# Altium footprint library Footprint.PcbLib: 97 footprints (part 3 of 7)
Each footprint in its own frame and in the unit in brackets; x right, y up, seen from the top. Pads: shape width x height; smd on the part's side, far side on the other; paste and mask are expansions set on the pad; w line width, h text height; cw(c..) or ccw(c..) is an arc to the next point about the centre after c.
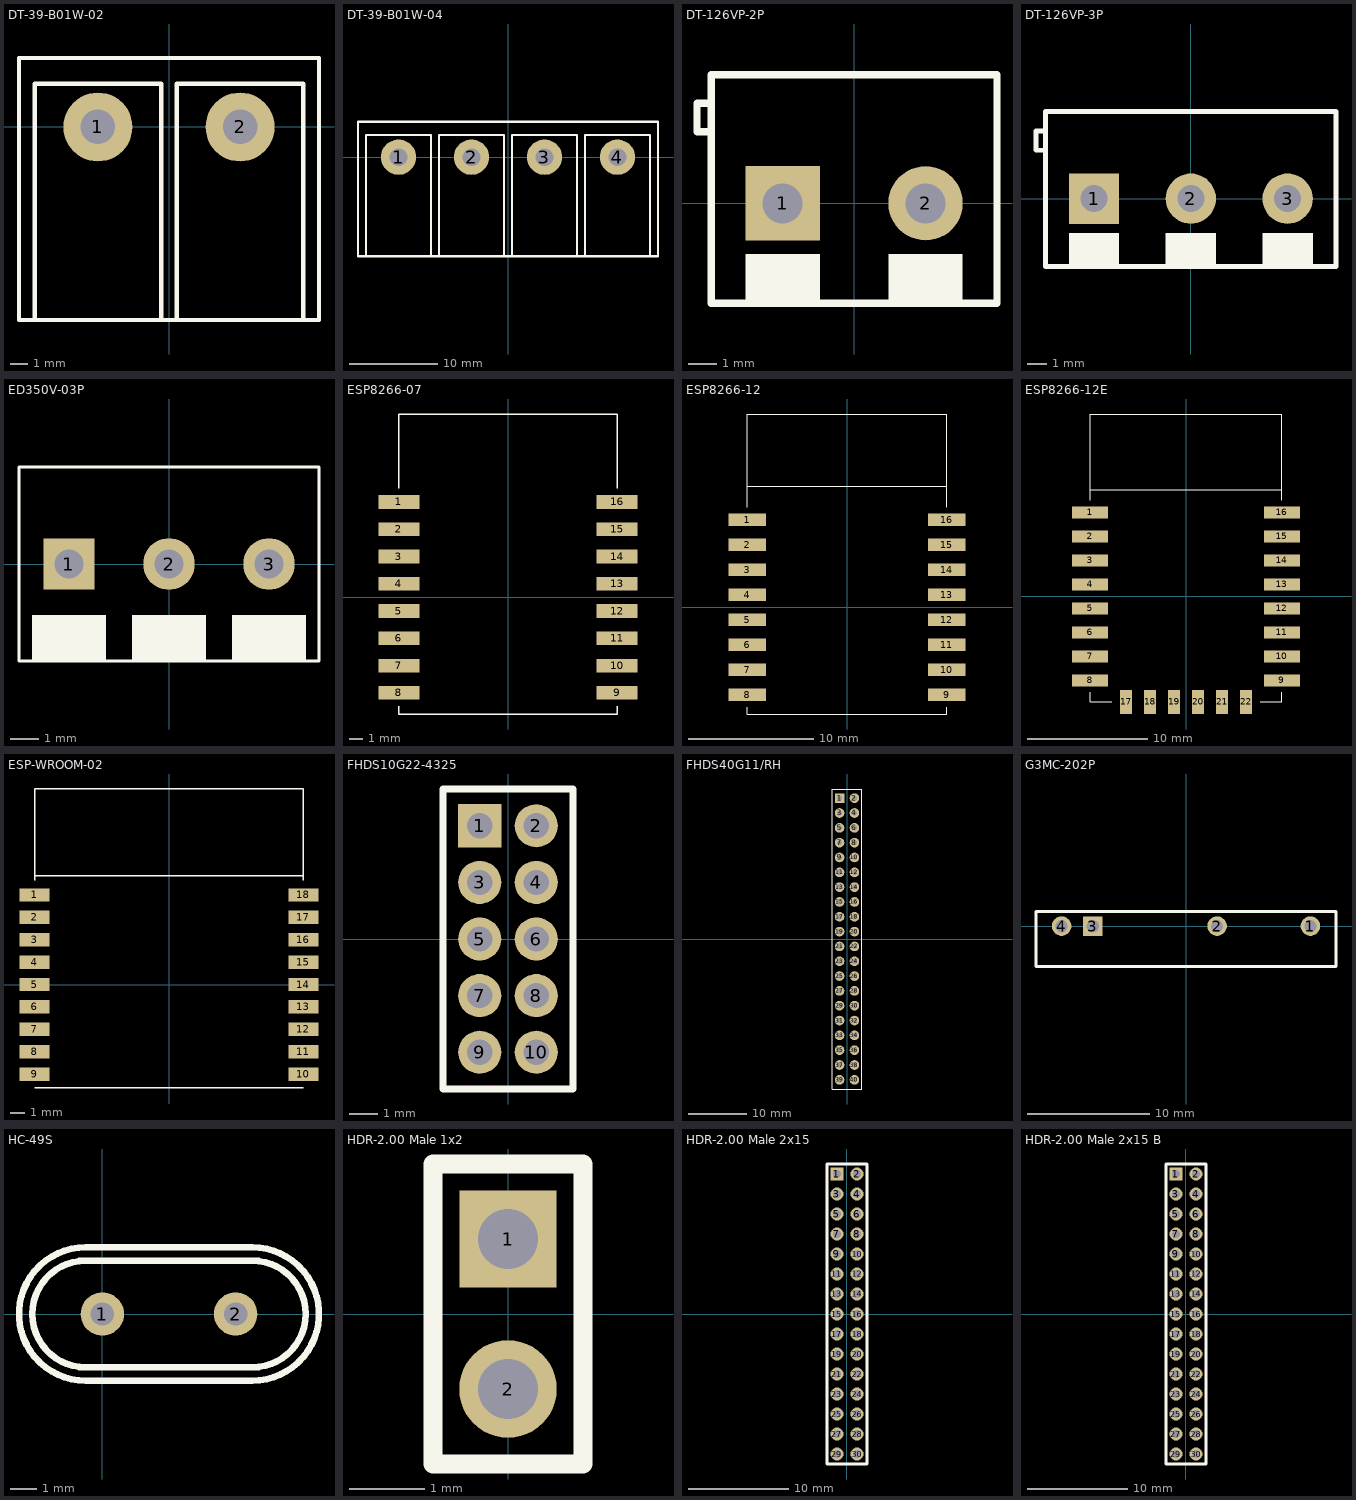
[diagram p2: the footprints below, top view; thin cyan lines are the x and y axes]

## DT-39-B01W-02 [mm]
pads (2):
  round 4 hole 2: 1(-4.125,0) 2(4.125,0)
Top Overlay:
  lines w0.254: -7.8,-11.1 -7.8,2.5 -0.45,2.5 -0.45,-11.15 ; 0.45,-11.15 0.45,2.5 7.8,2.5 7.8,-11.2 ; -8.705,-11.2 -8.705,4 8.705,4 8.705,-11.2 -8.705,-11.2

## DT-39-B01W-04 [mm]
pads (4):
  round 4 hole 2: 1(-12.375,0) 2(-4.125,0) 3(4.125,0) 4(12.375,0)
Top Overlay:
  lines w0.254: -16.05,-11.15 -16.05,2.5 -8.7,2.5 -8.7,-11.2 ; -7.8,-11.1 -7.8,2.5 -0.45,2.5 -0.45,-11.15 ; 0.45,-11.15 0.45,2.5 7.8,2.5 7.8,-11.2 ; 8.7,-11.2 8.7,2.5 16.05,2.5 16.05,-11.15 ; -16.955,-11.2 16.955,-11.2 16.955,4 -16.955,4 -16.955,-11.2

## DT-126VP-2P [mm]
pads (2):
  rect 2.6x2.6 hole 1.4: 1(-2.5,0)
  round 2.6 hole 1.4: 2(2.5,0)
Top Overlay:
  rectangle: -3.8,-3.5 -1.2,-1.778
  rectangle: 1.2,-3.5 3.8,-1.778
  lines w0.254: -5,2.5 -5.5,2.5 -5.5,3.5 -5,3.5 ; -5,-3.5 -5,4.5 5,4.5 5,-3.5 -5,-3.5

## DT-126VP-3P [mm]
pads (3):
  rect 2.6x2.6 hole 1.4: 1(-5,0)
  round 2.6 hole 1.4: 2(0,0) 3(5,0)
Top Overlay:
  rectangle: 3.7,-3.5 6.3,-1.778
  rectangle: -1.3,-3.5 1.3,-1.778
  rectangle: -6.3,-3.5 -3.7,-1.778
  lines w0.254: -7.5,2.5 -8,2.5 -8,3.5 -7.5,3.5 ; -7.5,-3.5 -7.5,4.5 7.5,4.5 7.5,-3.5 -7.5,-3.5

## ED350V-03P [mm] "Terminal Block 3 Pins Mini PCB 300V/10A Wire protector"
pads (3):
  rect 1.8x1.8 hole 1: 1(-3.5,0)
  round 1.8 hole 1: 2(0,0) 3(3.5,0)
Top Overlay:
  rectangle: -4.8,-3.4 -2.2,-1.778
  rectangle: 2.2,-3.4 4.8,-1.778
  rectangle: -1.3,-3.4 1.3,-1.778
  lines w0.1: -5.25,-3.4 5.25,-3.4 5.25,3.4 -5.25,3.4 -5.25,-3.4

## ESP8266-07 [mm]
pads (16):
  rect 3x1 smd: 1(-8,7) 2(-8,5) 3(-8,3) 4(-8,1) 5(-8,-1) 6(-8,-3) 7(-8,-5) 8(-8,-7) 9(8,-7) 10(8,-5) 11(8,-3) 12(8,-1) 13(8,1) 14(8,3) 15(8,5) 16(8,7)
Top Overlay:
  lines w0.1: -8,-8 -8,-8.55 8,-8.55 8,-8 ; -8,8 -8,13.45 8,13.45 8,8

## ESP8266-12 [mm]
pads (16):
  rect 3x1 smd: 1(-8,7) 2(-8,5) 3(-8,3) 4(-8,1) 5(-8,-1) 6(-8,-3) 7(-8,-5) 8(-8,-7) 9(8,-7) 10(8,-5) 11(8,-3) 12(8,-1) 13(8,1) 14(8,3) 15(8,5) 16(8,7)
Top Overlay:
  lines w0.1: -8,-8 -8,-8.55 8,-8.55 8,-8 ; -8,8 -8,15.45 8,15.45 8,8 ; -8,9.65 8,9.65

## ESP8266-12E [mm]
pads (22):
  rect 3x1 smd: 1(-8,7) 2(-8,5) 3(-8,3) 4(-8,1) 5(-8,-1) 6(-8,-3) 7(-8,-5) 8(-8,-7) 9(8,-7) 10(8,-5) 11(8,-3) 12(8,-1) 13(8,1) 14(8,3) 15(8,5) 16(8,7)
  rect 1x2 smd: 17(-5,-8.8) 18(-3,-8.8) 19(-1,-8.8) 20(1,-8.8) 21(3,-8.8) 22(5,-8.8)
Top Overlay:
  lines w0.1: -8,-8 -8,-8.8 -6.186,-8.8 ; -8,8 -8,15.2 8,15.2 8,8 ; -8,8.888 8,8.888 ; 6.186,-8.8 8,-8.8 8,-8
3D body: height 1.01, standoff 1, extent -7.31,10 7.6,14.57
3D body: height 1.2, standoff 1, extent 5.5,8.4 6.5,9.2
3D body: height 1.2, standoff 1, extent 6.5,8.4 6.8,9.2
3D body: height 1.4, standoff 1.2, extent 5.5,8.4 6.5,9.2
3D body: height 1.2, standoff 1, extent 5.2,8.4 5.5,9.2
3D body: height 1, standoff 0, extent -8,-8.8 8,15.2
3D body: height 1, standoff 0, extent -7.3,-7.5 -6.9,-6.5
3D body: height 1, standoff 0, extent -6.9,-7.5 -6.5,-6.5
3D body: height 1, standoff 0, extent -8,-7.5 -7.3,-6.5
3D body: height 1, standoff 0, extent -5.5,-8.8 -4.5,-7.8
3D body: height 1, standoff 0, extent -3.5,-8.8 -2.5,-7.8
3D body: height 1, standoff 0, extent -1.5,-8.8 -0.5,-7.8
3D body: height 1, standoff 0, extent 0.5,-8.8 1.5,-7.8
3D body: height 1, standoff 0, extent 2.5,-8.8 3.5,-7.8
3D body: height 1, standoff 0, extent 4.5,-8.8 5.5,-7.8
3D body: height 2.5, standoff 1, extent -6,-7.3 6,7.7
3D body: height 1, standoff 0, extent -8,-5.5 -7.3,-4.5
3D body: height 1, standoff 0, extent -6.9,-5.5 -6.5,-4.5
3D body: height 1, standoff 0, extent -7.3,-5.5 -6.9,-4.5
3D body: height 1, standoff 0, extent -8,-3.5 -7.3,-2.5
3D body: height 1, standoff 0, extent -6.9,-3.5 -6.5,-2.5
3D body: height 1, standoff 0, extent -7.3,-3.5 -6.9,-2.5
3D body: height 1, standoff 0, extent -8,-1.5 -7.3,-0.5
3D body: height 1, standoff 0, extent -6.9,-1.5 -6.5,-0.5
3D body: height 1, standoff 0, extent -7.3,-1.5 -6.9,-0.5
3D body: height 1, standoff 0, extent -8,0.5 -7.3,1.5
3D body: height 1, standoff 0, extent -6.9,0.5 -6.5,1.5
3D body: height 1, standoff 0, extent -7.3,0.5 -6.9,1.5
3D body: height 1, standoff 0, extent -8,2.5 -7.3,3.5
3D body: height 1, standoff 0, extent -6.9,2.5 -6.5,3.5
3D body: height 1, standoff 0, extent -7.3,2.5 -6.9,3.5
3D body: height 1, standoff 0, extent -8,4.5 -7.3,5.5
3D body: height 1, standoff 0, extent -6.9,4.5 -6.5,5.5
3D body: height 1, standoff 0, extent -7.3,4.5 -6.9,5.5
3D body: height 1, standoff 0, extent -8,6.5 -7.3,7.5
3D body: height 1, standoff 0, extent -6.9,6.5 -6.5,7.5
3D body: height 1, standoff 0, extent -7.3,6.5 -6.9,7.5
3D body: height 1, standoff 0, extent 6.9,-7.5 7.3,-6.5
3D body: height 1, standoff 0, extent 6.5,-7.5 6.9,-6.5
3D body: height 1, standoff 0, extent 7.3,-7.5 8,-6.5
3D body: height 1, standoff 0, extent 6.9,-5.5 7.3,-4.5
3D body: height 1, standoff 0, extent 6.5,-5.5 6.9,-4.5
3D body: height 1, standoff 0, extent 7.3,-5.5 8,-4.5
3D body: height 1, standoff 0, extent 6.9,-3.5 7.3,-2.5
3D body: height 1, standoff 0, extent 6.5,-3.5 6.9,-2.5
3D body: height 1, standoff 0, extent 7.3,-3.5 8,-2.5
3D body: height 1, standoff 0, extent 6.9,-1.5 7.3,-0.5
3D body: height 1, standoff 0, extent 6.5,-1.5 6.9,-0.5
3D body: height 1, standoff 0, extent 7.3,-1.5 8,-0.5
3D body: height 1, standoff 0, extent 6.9,0.5 7.3,1.5
3D body: height 1, standoff 0, extent 6.5,0.5 6.9,1.5
3D body: height 1, standoff 0, extent 7.3,0.5 8,1.5
3D body: height 1, standoff 0, extent 6.9,2.5 7.3,3.5
3D body: height 1, standoff 0, extent 6.5,2.5 6.9,3.5
3D body: height 1, standoff 0, extent 7.3,2.5 8,3.5
3D body: height 1, standoff 0, extent 6.9,4.5 7.3,5.5
3D body: height 1, standoff 0, extent 6.5,4.5 6.9,5.5
3D body: height 1, standoff 0, extent 7.3,4.5 8,5.5
3D body: height 1, standoff 0, extent 7.3,6.5 8,7.5
3D body: height 1, standoff 0, extent 6.5,6.5 6.9,7.5
3D body: height 1, standoff 0, extent 6.9,6.5 7.3,7.5

## ESP-WROOM-02 [mm]
pads (18):
  rect 2x0.9 smd: 1(-9,6) 2(-9,4.5) 3(-9,3) 4(-9,1.5) 5(-9,0) 6(-9,-1.5) 7(-9,-3) 8(-9,-4.5) 9(-9,-6) 10(9,-6) 11(9,-4.5) 12(9,-3) 13(9,-1.5) 14(9,0) 15(9,1.5) 16(9,3) 17(9,4.5) 18(9,6)
Top Overlay:
  lines w0.1: -9,-6.9 9,-6.9 ; -9,7 -9,13.1 9,13.1 9,7 ; -9,7.3 9,7.3

## FHDS10G22-4325 [mil] "2.00mm 2x5 PINS, FEMALE"
pads (10):
  rect 60x60 hole 35: 1(-39.37,157.48)
  round 60 hole 35: 2(39.37,157.48) 3(-39.37,78.74) 4(39.37,78.74) 5(-39.37,0) 6(39.37,0) 7(-39.37,-78.74) 8(39.37,-78.74) 9(-39.37,-157.48) 10(39.37,-157.48)
Top Overlay:
  lines w10: -90.55,-208.66 90.55,-208.66 90.55,208.66 -90.55,208.66 -90.55,-208.66

## FHDS40G11/RH [mil]
pads (40):
  rect 65x65 hole 35: 1(-50,950)
  round 65 hole 35: 2(50,950) 3(-50,850) 4(50,850) 5(-50,750) 6(50,750) 7(-50,650) 8(50,650) 9(-50,550) 10(50,550) 11(-50,450) 12(50,450) 13(-50,350) 14(50,350) 15(-50,250) 16(50,250) 17(-50,150) 18(50,150) 19(-50,50) 20(50,50) 21(-50,-50) 22(50,-50) 23(-50,-150) 24(50,-150) 25(-50,-250) 26(50,-250) 27(-50,-350) 28(50,-350) 29(-50,-450) 30(50,-450) 31(-50,-550) 32(50,-550) 33(-50,-650) 34(50,-650) 35(-50,-750) 36(50,-750) 37(-50,-850) 38(50,-850) 39(-50,-950) 40(50,-950)
Top Overlay:
  lines w5: -98.43,-1011.81 -98.43,1011.81 98.43,1011.81 98.43,-1011.81 -98.43,-1011.81
3D body: height 19.68, standoff 0, extent -98.43,-1011.81 -78.74,1011.81
3D body: height 19.68, standoff 0, extent 78.74,-1011.81 98.43,1011.81
3D body: height 314.96, standoff 19.68, extent -98.43,-1011.81 -69.69,1011.81
3D body: height 314.96, standoff 19.68, extent 69.69,-1011.81 98.43,1011.81
3D body: height 314.96, standoff 19.68, extent -69.69,969.68 69.69,1011.81
3D body: height 314.96, standoff 19.68, extent -69.69,-1011.81 69.69,-969.68
3D body: height 314.96, standoff 19.68, extent -30.32,-969.68 30.32,969.68
3D body: height 314.96, standoff 19.68, extent -69.69,900 69.69,930.32
3D body: height 314.96, standoff 19.68, extent -69.69,869.68 69.69,900
3D body: height 314.96, standoff 19.68, extent -69.69,769.68 69.69,800
3D body: height 314.96, standoff 19.68, extent -69.69,800 69.69,830.32
3D body: height 314.96, standoff 19.68, extent -69.69,669.68 69.69,700
3D body: height 314.96, standoff 19.68, extent -69.69,700 69.69,730.32
3D body: height 314.96, standoff 19.68, extent -69.69,569.68 69.69,600
3D body: height 314.96, standoff 19.68, extent -69.69,600 69.69,630.32
3D body: height 314.96, standoff 19.68, extent -69.69,469.69 69.69,500
3D body: height 314.96, standoff 19.68, extent -69.69,500 69.69,530.32
3D body: height 314.96, standoff 19.68, extent -69.69,369.69 69.69,400
3D body: height 314.96, standoff 19.68, extent -69.69,400 69.69,430.31
3D body: height 314.96, standoff 19.68, extent -69.69,269.69 69.69,300
3D body: height 314.96, standoff 19.68, extent -69.69,300 69.69,330.31
3D body: height 314.96, standoff 19.68, extent -69.69,169.69 69.69,200
3D body: height 314.96, standoff 19.68, extent -69.69,200 69.69,230.31
3D body: height 314.96, standoff 19.68, extent -69.69,69.69 69.69,100
3D body: height 314.96, standoff 19.68, extent -69.69,100 69.69,130.31
3D body: height 314.96, standoff 19.68, extent -69.69,-30.32 69.69,0
3D body: height 314.96, standoff 19.68, extent -69.69,0 69.69,30.32
3D body: height 314.96, standoff 19.68, extent -69.69,-130.31 69.69,-100
3D body: height 314.96, standoff 19.68, extent -69.69,-100 69.69,-69.69
3D body: height 314.96, standoff 19.68, extent -69.69,-230.31 69.69,-200
3D body: height 314.96, standoff 19.68, extent -69.69,-200 69.69,-169.69
3D body: height 314.96, standoff 19.68, extent -69.69,-330.31 69.69,-300
3D body: height 314.96, standoff 19.68, extent -69.69,-300 69.69,-269.69
3D body: height 314.96, standoff 19.68, extent -69.69,-430.31 69.69,-400
3D body: height 314.96, standoff 19.68, extent -69.69,-400 69.69,-369.69
3D body: height 314.96, standoff 19.68, extent -69.69,-530.32 69.69,-500
3D body: height 314.96, standoff 19.68, extent -69.69,-500 69.69,-469.69
3D body: height 314.96, standoff 19.68, extent -69.69,-630.32 69.69,-600
3D body: height 314.96, standoff 19.68, extent -69.69,-600 69.69,-569.68
3D body: height 314.96, standoff 19.68, extent -69.69,-730.32 69.69,-700
3D body: height 314.96, standoff 19.68, extent -69.69,-700 69.69,-669.68
3D body: height 314.96, standoff 19.68, extent -69.69,-830.32 69.69,-800
3D body: height 314.96, standoff 19.68, extent -69.69,-800 69.69,-769.68
3D body: height 314.96, standoff 19.68, extent -69.69,-930.32 69.69,-900
3D body: height 314.96, standoff 19.68, extent -69.69,-900 69.69,-869.68
3D body: height 19.68, standoff -129.92, extent -57.87,938.19 -42.13,961.81
3D body: height 19.68, standoff -129.92, extent 42.13,938.19 57.87,961.81
3D body: height 19.68, standoff -129.92, extent 42.13,838.19 57.87,861.81
3D body: height 19.68, standoff -129.92, extent -57.87,838.19 -42.13,861.81
3D body: height 19.68, standoff -129.92, extent -57.87,738.19 -42.13,761.81
3D body: height 19.68, standoff -129.92, extent 42.13,738.19 57.87,761.81
3D body: height 19.68, standoff -129.92, extent 42.13,638.19 57.87,661.81
3D body: height 19.68, standoff -129.92, extent -57.87,638.19 -42.13,661.81
3D body: height 19.68, standoff -129.92, extent -57.87,538.19 -42.13,561.81
3D body: height 19.68, standoff -129.92, extent 42.13,538.19 57.87,561.81
3D body: height 19.68, standoff -129.92, extent -57.87,438.19 -42.13,461.81
3D body: height 19.68, standoff -129.92, extent 42.13,438.19 57.87,461.81
3D body: height 19.68, standoff -129.92, extent -57.87,338.19 -42.13,361.81
3D body: height 19.68, standoff -129.92, extent 42.13,338.19 57.87,361.81
3D body: height 19.68, standoff -129.92, extent -57.87,238.19 -42.13,261.81
3D body: height 19.68, standoff -129.92, extent 42.13,238.19 57.87,261.81
3D body: height 19.68, standoff -129.92, extent -57.87,138.19 -42.13,161.81
3D body: height 19.68, standoff -129.92, extent 42.13,138.19 57.87,161.81
3D body: height 19.68, standoff -129.92, extent -57.87,38.19 -42.13,61.81
3D body: height 19.68, standoff -129.92, extent 42.13,38.19 57.87,61.81
3D body: height 19.68, standoff -129.92, extent -57.87,-61.81 -42.13,-38.19
3D body: height 19.68, standoff -129.92, extent 42.13,-61.81 57.87,-38.19
3D body: height 19.68, standoff -129.92, extent -57.87,-161.81 -42.13,-138.19
3D body: height 19.68, standoff -129.92, extent 42.13,-161.81 57.87,-138.19
3D body: height 19.68, standoff -129.92, extent -57.87,-261.81 -42.13,-238.19
3D body: height 19.68, standoff -129.92, extent 42.13,-261.81 57.87,-238.19
3D body: height 19.68, standoff -129.92, extent -57.87,-361.81 -42.13,-338.19
3D body: height 19.68, standoff -129.92, extent 42.13,-361.81 57.87,-338.19
3D body: height 19.68, standoff -129.92, extent -57.87,-461.81 -42.13,-438.19
3D body: height 19.68, standoff -129.92, extent 42.13,-461.81 57.87,-438.19
3D body: height 19.68, standoff -129.92, extent -57.87,-561.81 -42.13,-538.19
3D body: height 19.68, standoff -129.92, extent 42.13,-561.81 57.87,-538.19
3D body: height 19.68, standoff -129.92, extent -57.87,-661.81 -42.13,-638.19
3D body: height 19.68, standoff -129.92, extent 42.13,-661.81 57.87,-638.19
3D body: height 19.68, standoff -129.92, extent -57.87,-761.81 -42.13,-738.19
3D body: height 19.68, standoff -129.92, extent 42.13,-761.81 57.87,-738.19
3D body: height 19.68, standoff -129.92, extent -57.87,-861.81 -42.13,-838.19
3D body: height 19.68, standoff -129.92, extent 42.13,-861.81 57.87,-838.19
3D body: height 19.68, standoff -129.92, extent -57.87,-961.81 -42.13,-938.19
3D body: height 19.68, standoff -129.92, extent 42.13,-961.81 57.87,-938.19

## G3MC-202P [mm]
pads (4):
  round 1.6 hole 1: 1(10.16,0) 2(2.54,0) 4(-10.16,0)
  rect 1.6x1.6 hole 1: 3(-7.62,0)
Top Overlay:
  lines w0.254: -12.25,-3.3 -12.25,1.2 12.25,1.2 12.25,-3.3 -12.25,-3.3
3D body: height 0.8, standoff 0, extent -5.08,-3.3 -3.175,1.2
3D body: height 0.8, standoff 0, extent 6.35,-3.3 8.255,1.2
3D body: height 0.8, standoff 0, extent -8.42,-0.125 -6.82,0.125
3D body: height -2.8, standoff -3.5, extent -7.97,-0.125 -7.271,0.125
3D body: height 0, standoff -3.15, extent -7.97,-0.125 -7.27,0.125
3D body: height 0.8, standoff 0, extent -10.96,-0.125 -9.36,0.125
3D body: height -2.8, standoff -3.5, extent -10.51,-0.125 -9.811,0.125
3D body: height 0, standoff -3.15, extent -10.51,-0.125 -9.81,0.125
3D body: height 0.8, standoff 0, extent 1.74,-0.125 3.34,0.125
3D body: height -2.8, standoff -3.5, extent 2.19,-0.125 2.889,0.125
3D body: height 0, standoff -3.15, extent 2.19,-0.125 2.89,0.125
3D body: height 0.8, standoff 0, extent 9.36,-0.125 10.96,0.125
3D body: height -2.8, standoff -3.5, extent 9.81,-0.125 10.509,0.125
3D body: height 0, standoff -3.15, extent 9.81,-0.125 10.51,0.125
3D body: height 20.5, standoff 0.8, extent -12.25,-3.3 12.25,1.2

## HC-49S [mil]
pads (2):
  round 65 hole 35: 1(0,0) 2(200,0)
Top Overlay:
  lines w10: -25,-100 cw(c-25,0) -25,100 225,100 cw(c225,0) 225,-100 -25,-100 ; -25,-80 cw(c-25,0) -25,80 225,80 cw(c225,0) 225,-80 -25,-80

## HDR-2.00 Male 1x2 [mm]
pads (2):
  rect 1.3x1.3 hole 0.8: 1(0,1)
  round 1.3 hole 0.8: 2(0,-1)
Top Overlay:
  lines w0.254: -1,-2 1,-2 1,2 -1,2 -1,-2
3D body: height 0.25, standoff 0, extent 0.5,0 1,2
3D body: height 0.25, standoff 0, extent -1,0 -0.5,2
3D body: height 2, standoff 0.25, extent -1,0 1,2
3D body: height 2, standoff 0.25, extent -1,-2 1,0
3D body: height 6, standoff -2.8, extent -0.25,-1.24 0.25,-0.74
3D body: height 0.25, standoff 0, extent -1,-2 -0.5,0
3D body: height 0.25, standoff 0, extent 0.5,-2 1,0
3D body: height 6, standoff -2.8, extent -0.25,0.76 0.25,1.26

## HDR-2.00 Male 2x15 [mm]
pads (30):
  rect 1.3x1.3 hole 0.8: 1(-1,14)
  round 1.3 hole 0.8: 2(1,14) 3(-1,12) 4(1,12) 5(-1,10) 6(1,10) 7(-1,8) 8(1,8) 9(-1,6) 10(1,6) 11(-1,4) 12(1,4) 13(-1,2) 14(1,2) 15(-1,0) 16(1,0) 17(-1,-2) 18(1,-2) 19(-1,-4) 20(1,-4) 21(-1,-6) 22(1,-6) 23(-1,-8) 24(1,-8) 25(-1,-10) 26(1,-10) 27(-1,-12) 28(1,-12) 29(-1,-14) 30(1,-14)
Top Overlay:
  lines w0.254: -2,-15 2,-15 2,-5 2,5 2,15 -2,15 -2,5 -2,-5 -2,-15
3D body: height 2, standoff 0.25, extent -2,-15 2,-13
3D body: height 2, standoff 0.25, extent -2,-13 2,-11
3D body: height 2, standoff 0.25, extent -2,-11 2,-9
3D body: height 2, standoff 0.25, extent -2,-9 2,-7
3D body: height 2, standoff 0.25, extent -2,-7 2,-5
3D body: height 0.25, standoff 0, extent 1.5,-7 2,-5
3D body: height 0.25, standoff 0, extent 1.5,-9 2,-7
3D body: height 0.25, standoff 0, extent 1.5,-11 2,-9
3D body: height 0.25, standoff 0, extent 1.5,-13 2,-11
3D body: height 0.25, standoff 0, extent 1.5,-15 2,-13
3D body: height 0.25, standoff 0, extent -2,-15 -1.5,-13
3D body: height 0.25, standoff 0, extent -2,-13 -1.5,-11
3D body: height 0.25, standoff 0, extent -2,-11 -1.5,-9
3D body: height 0.25, standoff 0, extent -2,-9 -1.5,-7
3D body: height 0.25, standoff 0, extent -2,-7 -1.5,-5
3D body: height 0.25, standoff 0, extent 0,-15 0.5,-5
3D body: height 6, standoff -2.8, extent 0.75,-14.24 1.25,-13.74
3D body: height 6, standoff -2.8, extent -1.25,-14.24 -0.75,-13.74
3D body: height 6, standoff -2.8, extent 0.75,-12.24 1.25,-11.74
3D body: height 6, standoff -2.8, extent -1.25,-12.24 -0.75,-11.74
3D body: height 6, standoff -2.8, extent 0.75,-10.24 1.25,-9.74
3D body: height 6, standoff -2.8, extent -1.25,-10.24 -0.75,-9.74
3D body: height 6, standoff -2.8, extent -1.25,-6.24 -0.75,-5.74
3D body: height 6, standoff -2.8, extent -1.25,-8.24 -0.75,-7.74
3D body: height 0.25, standoff 0, extent -0.5,-15 0,-5
3D body: height 6, standoff -2.8, extent 0.75,-8.24 1.25,-7.74
3D body: height 6, standoff -2.8, extent 0.75,-6.24 1.25,-5.74
3D body: height 6, standoff -2.8, extent 0.75,13.76 1.25,14.26
3D body: height 6, standoff -2.8, extent 0.75,11.76 1.25,12.26
3D body: height 0.25, standoff 0, extent -0.5,5 0,15
3D body: height 6, standoff -2.8, extent -1.25,11.76 -0.75,12.26
3D body: height 6, standoff -2.8, extent -1.25,13.76 -0.75,14.26
3D body: height 6, standoff -2.8, extent -1.25,9.76 -0.75,10.26
3D body: height 6, standoff -2.8, extent 0.75,9.76 1.25,10.26
3D body: height 6, standoff -2.8, extent -1.25,7.76 -0.75,8.26
3D body: height 6, standoff -2.8, extent 0.75,7.76 1.25,8.26
3D body: height 6, standoff -2.8, extent -1.25,5.76 -0.75,6.26
3D body: height 6, standoff -2.8, extent 0.75,5.76 1.25,6.26
3D body: height 0.25, standoff 0, extent 0,5 0.5,15
3D body: height 0.25, standoff 0, extent -2,13 -1.5,15
3D body: height 0.25, standoff 0, extent -2,11 -1.5,13
3D body: height 0.25, standoff 0, extent -2,9 -1.5,11
3D body: height 0.25, standoff 0, extent -2,7 -1.5,9
3D body: height 0.25, standoff 0, extent -2,5 -1.5,7
3D body: height 0.25, standoff 0, extent 1.5,5 2,7
3D body: height 0.25, standoff 0, extent 1.5,7 2,9
3D body: height 0.25, standoff 0, extent 1.5,9 2,11
3D body: height 0.25, standoff 0, extent 1.5,11 2,13
3D body: height 0.25, standoff 0, extent 1.5,13 2,15
3D body: height 2, standoff 0.25, extent -2,13 2,15
3D body: height 2, standoff 0.25, extent -2,11 2,13
3D body: height 2, standoff 0.25, extent -2,9 2,11
3D body: height 2, standoff 0.25, extent -2,7 2,9
3D body: height 2, standoff 0.25, extent -2,5 2,7
3D body: height 6, standoff -2.8, extent 0.75,3.76 1.25,4.26
3D body: height 6, standoff -2.8, extent 0.75,1.76 1.25,2.26
3D body: height 0.25, standoff 0, extent -0.5,-5 0,5
3D body: height 6, standoff -2.8, extent -1.25,1.76 -0.75,2.26
3D body: height 6, standoff -2.8, extent -1.25,3.76 -0.75,4.26
3D body: height 6, standoff -2.8, extent -1.25,-0.24 -0.75,0.26
3D body: height 6, standoff -2.8, extent 0.75,-0.24 1.25,0.26
3D body: height 6, standoff -2.8, extent -1.25,-2.24 -0.75,-1.74
3D body: height 6, standoff -2.8, extent 0.75,-2.24 1.25,-1.74
3D body: height 6, standoff -2.8, extent -1.25,-4.24 -0.75,-3.74
3D body: height 6, standoff -2.8, extent 0.75,-4.24 1.25,-3.74
3D body: height 0.25, standoff 0, extent 0,-5 0.5,5
3D body: height 0.25, standoff 0, extent -2,3 -1.5,5
3D body: height 0.25, standoff 0, extent -2,1 -1.5,3
3D body: height 0.25, standoff 0, extent -2,-1 -1.5,1
3D body: height 0.25, standoff 0, extent -2,-3 -1.5,-1
3D body: height 0.25, standoff 0, extent -2,-5 -1.5,-3
3D body: height 0.25, standoff 0, extent 1.5,-5 2,-3
3D body: height 0.25, standoff 0, extent 1.5,-3 2,-1
3D body: height 0.25, standoff 0, extent 1.5,-1 2,1
3D body: height 0.25, standoff 0, extent 1.5,1 2,3
3D body: height 0.25, standoff 0, extent 1.5,3 2,5
3D body: height 2, standoff 0.25, extent -2,3 2,5
3D body: height 2, standoff 0.25, extent -2,1 2,3
3D body: height 2, standoff 0.25, extent -2,-1 2,1
3D body: height 2, standoff 0.25, extent -2,-3 2,-1
3D body: height 2, standoff 0.25, extent -2,-5 2,-3

## HDR-2.00 Male 2x15 B [mm]
pads (30):
  rect 1.3x1.3 hole 0.8: 1(-1,14)
  round 1.3 hole 0.8: 2(1,14) 3(-1,12) 4(1,12) 5(-1,10) 6(1,10) 7(-1,8) 8(1,8) 9(-1,6) 10(1,6) 11(-1,4) 12(1,4) 13(-1,2) 14(1,2) 15(-1,0) 16(1,0) 17(-1,-2) 18(1,-2) 19(-1,-4) 20(1,-4) 21(-1,-6) 22(1,-6) 23(-1,-8) 24(1,-8) 25(-1,-10) 26(1,-10) 27(-1,-12) 28(1,-12) 29(-1,-14) 30(1,-14)
Top Overlay:
  lines w0.254: -2,-15 -2,-5 -2,5 -2,15 2,15 2,5 2,-5 2,-15 -2,-15
3D body: height 2, standoff 0.25, extent -2,-5 2,-3
3D body: height 2, standoff 0.25, extent -2,-3 2,-1
3D body: height 2, standoff 0.25, extent -2,-1 2,1
3D body: height 2, standoff 0.25, extent -2,1 2,3
3D body: height 2, standoff 0.25, extent -2,3 2,5
3D body: height 0.25, standoff 0, extent 1.5,3 2,5
3D body: height 0.25, standoff 0, extent 1.5,1 2,3
3D body: height 0.25, standoff 0, extent 1.5,-1 2,1
3D body: height 0.25, standoff 0, extent 1.5,-3 2,-1
3D body: height 0.25, standoff 0, extent 1.5,-5 2,-3
3D body: height 0.25, standoff 0, extent -2,-5 -1.5,-3
3D body: height 0.25, standoff 0, extent -2,-3 -1.5,-1
3D body: height 0.25, standoff 0, extent -2,-1 -1.5,1
3D body: height 0.25, standoff 0, extent -2,1 -1.5,3
3D body: height 0.25, standoff 0, extent -2,3 -1.5,5
3D body: height 0.25, standoff 0, extent 0,-5 0.5,5
3D body: height 6, standoff -2.8, extent 0.75,-4.24 1.25,-3.74
3D body: height 6, standoff -2.8, extent -1.25,-4.24 -0.75,-3.74
3D body: height 6, standoff -2.8, extent 0.75,-2.24 1.25,-1.74
3D body: height 6, standoff -2.8, extent -1.25,-2.24 -0.75,-1.74
3D body: height 6, standoff -2.8, extent 0.75,-0.24 1.25,0.26
3D body: height 6, standoff -2.8, extent -1.25,-0.24 -0.75,0.26
3D body: height 6, standoff -2.8, extent -1.25,3.76 -0.75,4.26
3D body: height 6, standoff -2.8, extent -1.25,1.76 -0.75,2.26
3D body: height 0.25, standoff 0, extent -0.5,-5 0,5
3D body: height 6, standoff -2.8, extent 0.75,1.76 1.25,2.26
3D body: height 6, standoff -2.8, extent 0.75,3.76 1.25,4.26
3D body: height 2, standoff 0.25, extent -2,5 2,7
3D body: height 2, standoff 0.25, extent -2,7 2,9
3D body: height 2, standoff 0.25, extent -2,9 2,11
3D body: height 2, standoff 0.25, extent -2,11 2,13
3D body: height 2, standoff 0.25, extent -2,13 2,15
3D body: height 0.25, standoff 0, extent 1.5,13 2,15
3D body: height 0.25, standoff 0, extent 1.5,11 2,13
3D body: height 0.25, standoff 0, extent 1.5,9 2,11
3D body: height 0.25, standoff 0, extent 1.5,7 2,9
3D body: height 0.25, standoff 0, extent 1.5,5 2,7
3D body: height 0.25, standoff 0, extent -2,5 -1.5,7
3D body: height 0.25, standoff 0, extent -2,7 -1.5,9
3D body: height 0.25, standoff 0, extent -2,9 -1.5,11
3D body: height 0.25, standoff 0, extent -2,11 -1.5,13
3D body: height 0.25, standoff 0, extent -2,13 -1.5,15
3D body: height 0.25, standoff 0, extent 0,5 0.5,15
3D body: height 6, standoff -2.8, extent 0.75,5.76 1.25,6.26
3D body: height 6, standoff -2.8, extent -1.25,5.76 -0.75,6.26
3D body: height 6, standoff -2.8, extent 0.75,7.76 1.25,8.26
3D body: height 6, standoff -2.8, extent -1.25,7.76 -0.75,8.26
3D body: height 6, standoff -2.8, extent 0.75,9.76 1.25,10.26
3D body: height 6, standoff -2.8, extent -1.25,9.76 -0.75,10.26
3D body: height 6, standoff -2.8, extent -1.25,13.76 -0.75,14.26
3D body: height 6, standoff -2.8, extent -1.25,11.76 -0.75,12.26
3D body: height 0.25, standoff 0, extent -0.5,5 0,15
3D body: height 6, standoff -2.8, extent 0.75,11.76 1.25,12.26
3D body: height 6, standoff -2.8, extent 0.75,13.76 1.25,14.26
3D body: height 6, standoff -2.8, extent 0.75,-6.24 1.25,-5.74
3D body: height 6, standoff -2.8, extent 0.75,-8.24 1.25,-7.74
3D body: height 0.25, standoff 0, extent -0.5,-15 0,-5
3D body: height 6, standoff -2.8, extent -1.25,-8.24 -0.75,-7.74
3D body: height 6, standoff -2.8, extent -1.25,-6.24 -0.75,-5.74
3D body: height 6, standoff -2.8, extent -1.25,-10.24 -0.75,-9.74
3D body: height 6, standoff -2.8, extent 0.75,-10.24 1.25,-9.74
3D body: height 6, standoff -2.8, extent -1.25,-12.24 -0.75,-11.74
3D body: height 6, standoff -2.8, extent 0.75,-12.24 1.25,-11.74
3D body: height 6, standoff -2.8, extent -1.25,-14.24 -0.75,-13.74
3D body: height 6, standoff -2.8, extent 0.75,-14.24 1.25,-13.74
3D body: height 0.25, standoff 0, extent 0,-15 0.5,-5
3D body: height 0.25, standoff 0, extent -2,-7 -1.5,-5
3D body: height 0.25, standoff 0, extent -2,-9 -1.5,-7
3D body: height 0.25, standoff 0, extent -2,-11 -1.5,-9
3D body: height 0.25, standoff 0, extent -2,-13 -1.5,-11
3D body: height 0.25, standoff 0, extent -2,-15 -1.5,-13
3D body: height 0.25, standoff 0, extent 1.5,-15 2,-13
3D body: height 0.25, standoff 0, extent 1.5,-13 2,-11
3D body: height 0.25, standoff 0, extent 1.5,-11 2,-9
3D body: height 0.25, standoff 0, extent 1.5,-9 2,-7
3D body: height 0.25, standoff 0, extent 1.5,-7 2,-5
3D body: height 2, standoff 0.25, extent -2,-7 2,-5
3D body: height 2, standoff 0.25, extent -2,-9 2,-7
3D body: height 2, standoff 0.25, extent -2,-11 2,-9
3D body: height 2, standoff 0.25, extent -2,-13 2,-11
3D body: height 2, standoff 0.25, extent -2,-15 2,-13